# EAGLE library part LT1167 (library lt1167)
Single Resistor Gain Programmable, Precision Instrumentation Amplifier The LT®1167 is a low power, precision instrumentation amplifier that requires only one external resistor to set gains of 1 to 10,000. The low voltage noise of 7.5nV/√Hz (at 1kHz) is not compromised by low power dissipation (0.9mA typical for ±2.3V to ±15V supplies). The part’s high accuracy (10ppm maximum nonlinearity, 0.08% max gain error (G = 10)) is not degraded even for load resistors as low as 2k. The LT1167 is laser trimmed for very low input offset voltage (40μV max), drift (0.3μV/°C), high CMRR (90dB, G = 1) and PSRR (105dB, G = 1). Low input bias currents of 350pA max are achieved with the use of superbeta processing. The output can handle capacitive loads up to 1000pF in any gain configuration while the inputs are ESD protected up to 13kV (human body). The LT1167 with two external 5k resistors passes the IEC 1000-4-2 level 4 specification. The LT1167, offered in 8-pin PDIP and SO packages, requires significantly less PC board area than discrete multi op amp and resistor designs. The LT1167-1 offers the same performance as the LT1167, but its input current characteristic at high common mode voltage better supports applications with high input impedance (see the Applications Information section).
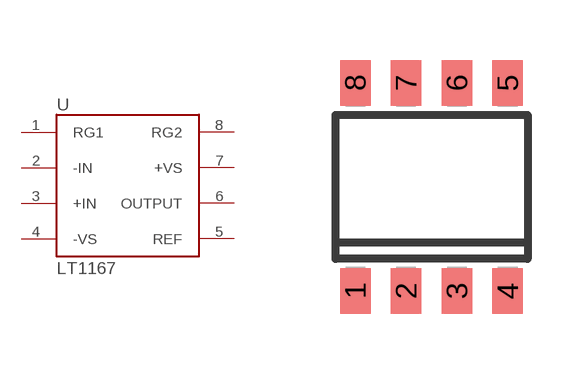
[diagram p0: symbol with the pads of S8; footprint S8]

Designator prefix U

## LT1167  [S8]
1  RG1
2  -IN
3  +IN
4  -VS
5  REF
6  OUTPUT
7  +VS
8  RG2

## Footprint S8 (pad centres in mm)
8-Lead Plastic Small Outline Narrow .150 Inch Source: http://cds.linear.com/docs/Datasheet/623012fb.pdf
smd 0.762 x 1.143: 1 -1.905,-2.6; 2 -0.635,-2.6; 3 0.635,-2.6; 4 1.905,-2.6; 5 1.905,2.6; 6 0.635,2.6; 7 -0.635,2.6; 8 -1.905,2.6